# Altium integrated library Altera Stratix GX.IntLib: 96 symbols (part 12 of 44)
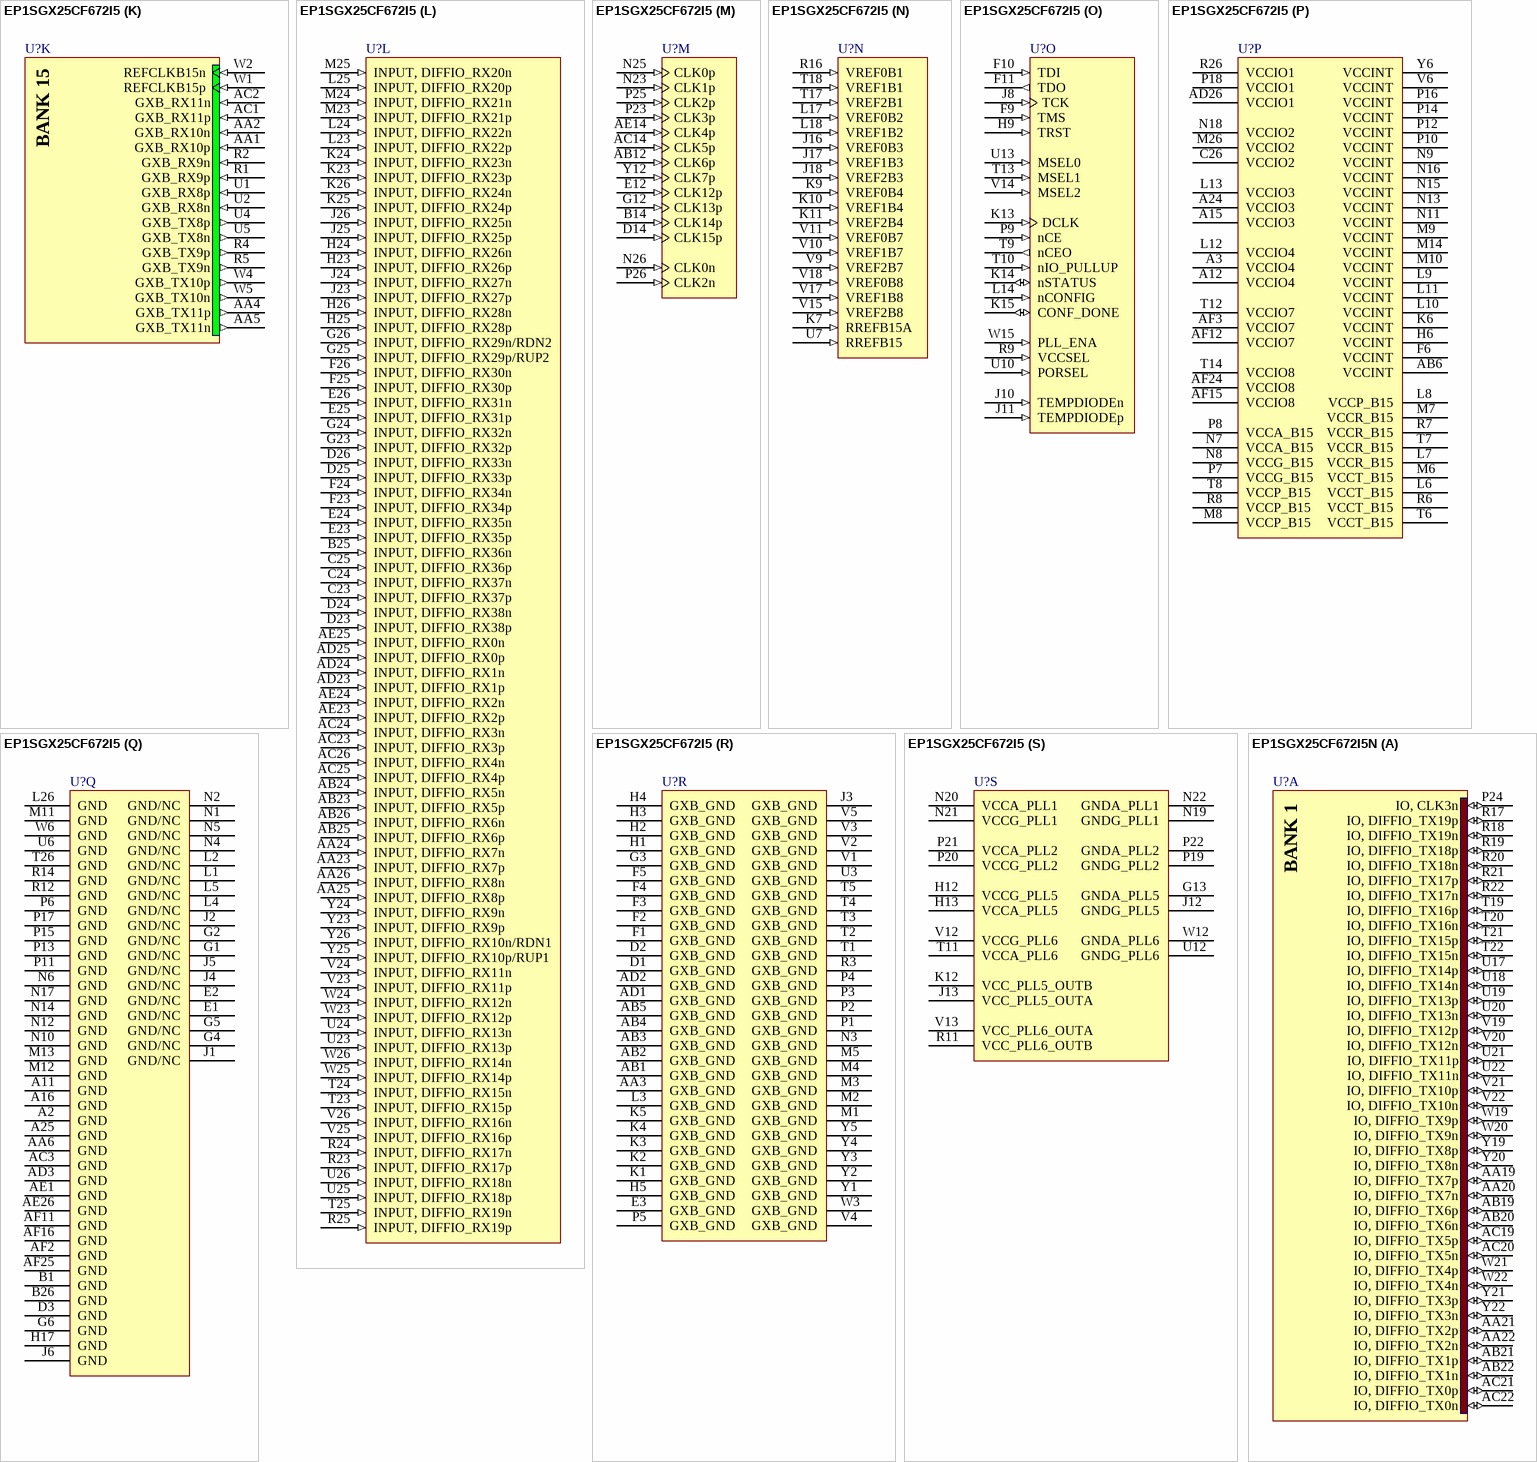
[diagram p280: symbols EP1SGX25CF672I5 to EP1SGX25CF672I5N]

## EP1SGX25CF672I5
designator U?
Stratix GX 1.5V FPGA, 426 I/Os, 672-Pin FineLine FBGA, Industrial Grade, Speed Grade 5; Published: 18-Aug-2005; LatestRevisionDate: 13-Apr-2006; LatestRevisionNote: Name of pin K7 updated, IPC-7351 Footprint Added.; DatasheetVersion: ver1.2, Jun-2006; PackageVersion: ver15.4, Dec-2008; PackageReference: FBGA672; Publisher: Altium Limited; PackageDescription: 672-Ball FineLine Ball Grid Array (FBGA672) - Flip Chip; Code_JEDEC: MS-034-AAL-1; ComponentLink1Description: Manufacturer Link; ComponentLink1URL: http://www.altera.com/products/devices/stratixgx/sgx-index.jsp; ComponentLink2Description: Handbook; ComponentLink2URL: http://www.altera.com/literature/hb/sgx/sgx_handbook.pdf; ComponentLink3Description: Packaging Specification; ComponentLink3URL: http://www.altera.com/literature/ds/dspkg.pdf
footprint FBGA672 (BGA, 672-Leads, Body 27x27mm, Pitch 1mm)
3D model EP1SGX25C-BGA672 (672-Ball FineLine Ball Grid Array (FBGA672) - Flip Chip)
part A pins: AA19 IO, DIFFIO_TX7p (io), AA20 IO, DIFFIO_TX7n (io), AA21 IO, DIFFIO_TX2p (io), AA22 IO, DIFFIO_TX2n (io), AB19 IO, DIFFIO_TX6p (io), AB20 IO, DIFFIO_TX6n (io), AB21 IO, DIFFIO_TX1p (io), AB22 IO, DIFFIO_TX1n (io), AC19 IO, DIFFIO_TX5p (io), AC20 IO, DIFFIO_TX5n (io), AC21 IO, DIFFIO_TX0p (io), AC22 IO, DIFFIO_TX0n (io), P24 IO, CLK3n (io), R17 IO, DIFFIO_TX19p (io), R18 IO, DIFFIO_TX19n (io), R19 IO, DIFFIO_TX18p (io), R20 IO, DIFFIO_TX18n (io), R21 IO, DIFFIO_TX17p (io), R22 IO, DIFFIO_TX17n (io), T19 IO, DIFFIO_TX16p (io), T20 IO, DIFFIO_TX16n (io), T21 IO, DIFFIO_TX15p (io), T22 IO, DIFFIO_TX15n (io), U17 IO, DIFFIO_TX14p (io), U18 IO, DIFFIO_TX14n (io), U19 IO, DIFFIO_TX13p (io), U20 IO, DIFFIO_TX13n (io), U21 IO, DIFFIO_TX11p (io), U22 IO, DIFFIO_TX11n (io), V19 IO, DIFFIO_TX12p (io), V20 IO, DIFFIO_TX12n (io), V21 IO, DIFFIO_TX10p (io), V22 IO, DIFFIO_TX10n (io), W19 IO, DIFFIO_TX9p (io), W20 IO, DIFFIO_TX9n (io), W21 IO, DIFFIO_TX4p (io), W22 IO, DIFFIO_TX4n (io), Y19 IO, DIFFIO_TX8p (io), Y20 IO, DIFFIO_TX8n (io), Y21 IO, DIFFIO_TX3p (io), Y22 IO, DIFFIO_TX3n (io)
part B pins: D21 IO, DIFFIO_TX38p (io), D22 IO, DIFFIO_TX38n (io), E19 IO, DIFFIO_TX36p (io), E20 IO, DIFFIO_TX36n (io), E21 IO, DIFFIO_TX37p (io), E22 IO, DIFFIO_TX37n (io), F19 IO, DIFFIO_TX34p (io), F20 IO, DIFFIO_TX34n (io), F21 IO, DIFFIO_TX35p (io), F22 IO, DIFFIO_TX35n (io), G19 IO, DIFFIO_TX33p (io), G20 IO, DIFFIO_TX33n (io), G21 IO, DIFFIO_TX32p (io), G22 IO, DIFFIO_TX32n (io), H19 IO, DIFFIO_TX30p (io), H20 IO, DIFFIO_TX30n (io), H21 IO, DIFFIO_TX31p (io), H22 IO, DIFFIO_TX31n (io), J19 IO, DIFFIO_TX27p (io), J20 IO, DIFFIO_TX27n (io), J21 IO, DIFFIO_TX29p (io), J22 IO, DIFFIO_TX29n (io), K17 IO, DIFFIO_TX24p (io), K18 IO, DIFFIO_TX24n (io), K19 IO, DIFFIO_TX26p (io), K20 IO, DIFFIO_TX26n (io), K21 IO, DIFFIO_TX28p (io), K22 IO, DIFFIO_TX28n (io), L19 IO, DIFFIO_TX23p (io), L20 IO, DIFFIO_TX23n (io), L21 IO, DIFFIO_TX25p (io), L22 IO, DIFFIO_TX25n (io), M17 IO, DIFFIO_TX20p (io), M18 IO, DIFFIO_TX20n (io), M19 IO, DIFFIO_TX21p (io), M20 IO, DIFFIO_TX21n (io), M21 IO, DIFFIO_TX22p (io), M22 IO, DIFFIO_TX22n (io), N24 IO, CLK1n (io)
part C pins: A14 IO, CLK14n (io), A17 IO, DQ7T2/DQ2T10/DQ1T10 (io), A18 IO, DQ8T2/DQ3T2/DQ1T18 (io), A19 IO, DQ8T5/DQ3T5/DQ1T21 (io), A20 IO, DQ8T4/DQ3T4/DQ1T20 (io), A21 IO, DQ9T0/DQ3T8/DQ1T24 (io), A22 IO, DQ9T4/DQ3T12/DQ1T28 (io), A23 IO, DQ9T6/DQ3T14/DQ1T30 (io), B15 IO, DQ6T1/DQ2T1/DQ1T1 (io), B16 IO, DQ6T7/DQ2T7/DQ1T7 (io), B17 IO, DQ7T1/DQ2T9/DQ1T9 (io), B18 IO, DQ7T5/DQ2T13/DQ1T13 (io), B19 IO, DQS8T/DQS3T/_ (io), B20 IO, DQ8T3/DQ3T3/DQ1T19 (io), B21 IO, DQ9T1/DQ3T9/DQ1T25 (io), B22 IO, DQS9T/_/_ (io), B23 IO, DQ9T5/DQ3T13/DQ1T29 (io), B24 IO, DQ9T7/DQ3T15/DQ1T31 (io), C14 IO, CLK15n (io), C15 IO, DQ6T6/DQ2T6/DQ1T6 (io), C16 IO, DQ6T3/DQ2T3/DQ1T3 (io), C17 IO, DQS7T/_/DQS1T (io), C18 IO, DQ7T4/DQ2T12/DQ1T12 (io), C19 IO, DQ8T0/DQ3T0/DQ1T16 (io), C20 IO, DQ8T6/DQ3T6/DQ1T22 (io), C21 IO, DQ9T2/DQ3T10/DQ1T26 (io), C22 IO, DQ9T3/DQ3T11/DQ1T27 (io), D15 IO, DQS6T/DQS2T/_ (io), D16 IO, DQ6T4/DQ2T4/DQ1T4 (io), D17 IO, DQ7T3/DQ2T11/DQ1T11 (io), D18 IO, DQ7T6/DQ2T14/DQ1T14 (io), D19 IO, DQ8T1/DQ3T1/DQ1T17 (io), D20 IO, DQ8T7/DQ3T7/DQ1T23 (io), E15 IO, DQ6T2/DQ2T2/DQ1T2 (io), E16 IO, DQ6T0/DQ2T0/DQ1T0 (io), E17 IO, DQ7T0/DQ2T8/DQ1T8 (io), E18 IO, DQ7T7/DQ2T15/DQ1T15 (io), F15 IO, DQ6T5/DQ2T5/DQ1T5 (io), F16 IO, DQ5T6/_/_ (io), F17 IO, (CLKUSR) (io), F18 IO, FCLK0 (io), G14 IO, DQ5T0/_/_ (io), G15 IO, DQS5T/_/_ (io), G16 IO, DQ5T3/_/_ (io), G17 IO, (DATA7) (io), G18 IO, FCLK1 (io), H14 IO, DQ5T1/_/_ (io), H15 IO, DQ5T7/_/_ (io), H16 IO, DQ5T4/_/_ (io), H18 IO (io), J14 IO, DQ5T2/_/_ (io), J15 IO, DQ5T5/_/_ (io), K16 IO, (DATA6) (io), L15 IO, (DATA4) (io), L16 IO, RUP3 (io), M15 IO, (DATA5) (io), M16 IO, RDN3 (io)
part D pins: A4 IO, DQ1T5/DQ0T13/DQ0T13 (io), A5 IO, DQ1T4/DQ0T12/DQ0T12 (io), A6 IO, DQ2T3/DQ1T3/DQ0T19 (io), A7 IO, DQ2T7/DQ1T7/DQ0T23 (io), A8 IO, DQ3T1/DQ1T9/DQ0T25 (io), A9 IO, DQ3T5/DQ1T13/DQ0T29 (io), A10 IO, DQ3T4/DQ1T12/DQ0T28 (io), B2 IO, DQ0T0/DQ0T0/DQ0T0 (io), B3 IO, DQ0T3/DQ0T3/DQ0T3 (io), B4 IO, DQ0T6/DQ0T6/DQ0T6 (io), B5 IO, DQ1T2/DQ0T10/DQ0T10 (io), B6 IO, DQ2T0/DQ1T0/DQ0T16 (io), B7 IO, DQ2T4/DQ1T4/DQ0T20 (io), B8 IO, DQS3T/DQS1T/_ (io), B9 IO, DQ3T6/DQ1T14/DQ0T30 (io), B10 IO, DQS4T/_/_ (io), B11 IO, DQ4T5/_/_ (io), C1 IO, DQ0T2/DQ0T2/DQ0T2 (io), C2 IO, DQ0T1/DQ0T1/DQ0T1 (io), C3 IO, DQS0T/_/_ (io), C4 IO, DQ0T7/DQ0T7/DQ0T7 (io), C5 IO, DQS1T/DQS0T/_ (io), C6 IO, DQ1T1/DQ0T9/DQ0T9 (io), C7 IO, DQS2T/_/DQS0T (io), C8 IO, DQ3T3/DQ1T11/DQ0T27 (io), C9 IO, DQ3T2/DQ1T10/DQ0T26 (io), C10 IO, DQ4T4/_/_ (io), C11 IO, DQ4T7/_/_ (io), D4 IO, DQ0T4/DQ0T4/DQ0T4 (io), D5 IO, DQ1T3/DQ0T11/DQ0T11 (io), D6 IO, DQ1T7/DQ0T15/DQ0T15 (io), D7 IO, DQ2T5/DQ1T5/DQ0T21 (io), D8 IO, DQ3T0/DQ1T8/DQ0T24 (io), D9 IO, DQ3T7/DQ1T15/DQ0T31 (io), D10 IO, DQ4T0/_/_ (io), D11 IO, DQ4T6/_/_ (io), D12 IO, CLK12n (io), E4 IO, DQ0T5/DQ0T5/DQ0T5 (io), E5 IO, DQ1T0/DQ0T8/DQ0T8 (io), E6 IO, DQ1T6/DQ0T14/DQ0T14 (io), E7 IO, DQ2T6/DQ1T6/DQ0T22 (io), E8 IO, DQ2T1/DQ1T1/DQ0T17 (io), E9 IO, DQ4T1/_/_ (io), E10 IO, DQ4T2/_/_ (io), E11 IO, DQ4T3/_/_ (io), F7 IO, DQ2T2/DQ1T2/DQ0T18 (io), F8 IO, (DATA1) (io), F12 IO, CLK13n (io), G7 IO, FCLK7 (io), G8 IO, RDN4 (io), G9 IO (io), G10 IO, FCLK6 (io), G11 IO, RUP4 (io), H7 IO (io), H8 IO (io), H10 IO, (DATA0) (io), H11 IO, (nWS) (io), J7 IO, DEV_OE (io), J9 IO, (DATA3) (io), K8 IO, (DATA2) (io)
part E pins: AA7 IO, DQ2B5/DQ1B5/DQ0B21 (io), AA8 IO, DQ2B1/DQ1B1/DQ0B17 (io), AA9 IO, DQ4B2/_/_ (io), AA10 IO, DQ4B1/_/_ (io), AA11 IO, DQ4B4/_/_ (io), AA12 IO, CLK7n (io), AB7 IO, DQS2B/_/DQS0B (io), AB8 IO, DQ2B0/DQ1B0/DQ0B16 (io), AB9 IO, DQ2B3/DQ1B3/DQ0B19 (io), AB10 IO, DQ4B0/_/_ (io), AB11 IO, DQ4B6/_/_ (io), AC4 IO, DQ0B5/DQ0B5/DQ0B5 (io), AC5 IO, DQ0B0/DQ0B0/DQ0B0 (io), AC6 IO, DQ1B0/DQ0B8/DQ0B8 (io), AC7 IO, DQ1B1/DQ0B9/DQ0B9 (io), AC8 IO, DQ2B4/DQ1B4/DQ0B20 (io), AC9 IO, DQ2B7/DQ1B7/DQ0B23 (io), AC10 IO, DQS4B/_/_ (io), AC11 IO, DQ4B7/_/_ (io), AC12 IO, CLK6n (io), AD4 IO, DQ0B4/DQ0B4/DQ0B4 (io), AD5 IO, DQ0B3/DQ0B3/DQ0B3 (io), AD6 IO, DQ1B3/DQ0B11/DQ0B11 (io), AD7 IO, DQ1B6/DQ0B14/DQ0B14 (io), AD8 IO, DQ3B0/DQ1B8/DQ0B24 (io), AD9 IO, DQ3B1/DQ1B9/DQ0B25 (io), AD10 IO, DQ4B3/_/_ (io), AD11 IO, DQ4B5/_/_ (io), AE2 IO, DQ0B2/DQ0B2/DQ0B2 (io), AE3 IO, DQ0B1/DQ0B1/DQ0B1 (io), AE4 IO, DQS0B/_/_ (io), AE5 IO, DQ0B6/DQ0B6/DQ0B6 (io), AE6 IO, DQS1B/DQS0B/_ (io), AE7 IO, DQ1B4/DQ0B12/DQ0B12 (io), AE8 IO, DQ3B3/DQ1B11/DQ0B27 (io), AE9 IO, DQS3B/DQS1B/_ (io), AE10 IO, DQ3B5/DQ1B13/DQ0B29 (io), AE11 IO, DQ3B6/DQ1B14/DQ0B30 (io), AF4 IO, DQ0B7/DQ0B7/DQ0B7 (io), AF5 IO, DQ1B7/DQ0B15/DQ0B15 (io), AF6 IO, DQ1B2/DQ0B10/DQ0B10 (io), AF7 IO, DQ1B5/DQ0B13/DQ0B13 (io), AF8 IO, DQ3B7/DQ1B15/DQ0B31 (io), AF9 IO, DQ3B2/DQ1B10/DQ0B26 (io), AF10 IO, DQ3B4/DQ1B12/DQ0B28 (io), R10 IO, (PGM0) (io), U8 IO, (PGM1) (io), U9 IO, (nRS) (io), U11 IO, (INIT_DONE) (io), V7 IO (io), V8 IO, RDN7 (io), W7 IO (io), W8 IO (io), W9 IO, FCLK5 (io), W10 IO, DEV_CLRn (io), W11 IO, (RUnLU) (io), Y7 IO, DQ2B6/DQ1B6/DQ0B22 (io), Y8 IO, DQ2B2/DQ1B2/DQ0B18 (io), Y9 IO, FCLK4 (io), Y10 IO, RUP7 (io), Y11 IO (io)
part F pins: AA15 IO, DQS5B/_/_ (io), AA16 IO, DQ5B6/_/_ (io), AA17 IO, DQS7B/_/DQS1B (io), AA18 IO, DQ7B6/DQ2B14/DQ1B14 (io), AB15 IO, DQ5B5/_/_ (io), AB16 IO, DQ7B3/DQ2B11/DQ1B11 (io), AB17 IO, DQ7B2/DQ2B10/DQ1B10 (io), AB18 IO, DQ7B5/DQ2B13/DQ1B13 (io), AC15 IO, DQ6B2/DQ2B2/DQ1B2 (io), AC16 IO, DQ6B1/DQ2B1/DQ1B1 (io), AC17 IO, DQ6B3/DQ2B3/DQ1B3 (io), AC18 IO, DQ8B1/DQ3B1/DQ1B17 (io), AD14 IO, CLK5n (io), AD15 IO, DQ6B5/DQ2B5/DQ1B5 (io), AD16 IO, DQS6B/DQS2B/_ (io), AD17 IO, DQ6B6/DQ2B6/DQ1B6 (io), AD18 IO, DQ8B5/DQ3B5/DQ1B21 (io), AD19 IO, DQ8B4/DQ3B4/DQ1B20 (io), AD20 IO, DQ9B1/DQ3B9/DQ1B25 (io), AD21 IO, DQ9B2/DQ3B10/DQ1B26 (io), AD22 IO, DQ9B5/DQ3B13/DQ1B29 (io), AE15 IO, DQ6B0/DQ2B0/DQ1B0 (io), AE16 IO, DQ6B4/DQ2B4/DQ1B4 (io), AE17 IO, DQ6B7/DQ2B7/DQ1B7 (io), AE18 IO, DQS8B/DQS3B/_ (io), AE19 IO, DQ8B6/DQ3B6/DQ1B22 (io), AE20 IO, DQ9B0/DQ3B8/DQ1B24 (io), AE21 IO, DQS9B/_/_ (io), AE22 IO, DQ9B6/DQ3B14/DQ1B30 (io), AF14 IO, CLK4n (io), AF17 IO, DQ8B2/DQ3B2/DQ1B18 (io), AF18 IO, DQ8B0/DQ3B0/DQ1B16 (io), AF19 IO, DQ8B3/DQ3B3/DQ1B19 (io), AF20 IO, DQ8B7/DQ3B7/DQ1B23 (io), AF21 IO, DQ9B3/DQ3B11/DQ1B27 (io), AF22 IO, DQ9B4/DQ3B12/DQ1B28 (io), AF23 IO, DQ9B7/DQ3B15/DQ1B31 (io), R13 IO, (nCS) (io), R15 IO, RDN8 (io), T15 IO, (PGM2) (io), T16 IO, FCLK3 (io), U14 IO, (CS) (io), U15 IO (io), U16 IO, FCLK2 (io), V16 IO, RUP8 (io), W13 IO, DQ5B2/_/_ (io), W14 IO, DQ5B4/_/_ (io), W16 IO, (RDYnBSY) (io), W17 IO, DQ7B1/DQ2B9/DQ1B9 (io), W18 IO, DQ7B4/DQ2B12/DQ1B12 (io), Y13 IO, DQ5B1/_/_ (io), Y14 IO, DQ5B0/_/_ (io), Y15 IO, DQ5B3/_/_ (io), Y16 IO, DQ5B7/_/_ (io), Y17 IO, DQ7B0/DQ2B8/DQ1B8 (io), Y18 IO, DQ7B7/DQ2B15/DQ1B15 (io)
part G pins: B12 IO, PLL5_OUT1n (io), C12 IO, PLL5_OUT1p (io), C13 IO, PLL5_OUT0n (io), D13 IO, PLL5_OUT0p (io), E13 IO, PLL5_FBn (io), F13 IO, PLL5_FBp (io)
part H pins: A13 IO, PLL5_OUT3n (io), B13 IO, PLL5_OUT3p (io), E14 IO, PLL5_OUT2n (io), F14 IO, PLL5_OUT2p (io)
part I pins: AA13 IO, PLL6_OUT1p (io), AB13 IO, PLL6_OUT1n (io), AC13 IO, PLL6_OUT0p (io), AD12 IO, PLL6_FBp (io), AD13 IO, PLL6_OUT0n (io), AE12 IO, PLL6_FBn (io)
part J pins: AA14 IO, PLL6_OUT2p (io), AB14 IO, PLL6_OUT2n (io), AE13 IO, PLL6_OUT3p (io), AF13 IO, PLL6_OUT3n (io)
part K pins: AA1 GXB_RX10p (in), AA2 GXB_RX10n (in), AA4 GXB_TX11p (out), AA5 GXB_TX11n (out), AC1 GXB_RX11p (in), AC2 GXB_RX11n (in), R1 GXB_RX9p (in), R2 GXB_RX9n (in), R4 GXB_TX9p (out), R5 GXB_TX9n (out), U1 GXB_RX8p (in), U2 GXB_RX8n (in), U4 GXB_TX8p (out), U5 GXB_TX8n (out), W1 REFCLKB15p (in), W2 REFCLKB15n (in), W4 GXB_TX10p (out), W5 GXB_TX10n (out)
part L pins: AA23 INPUT, DIFFIO_RX7p (in), AA24 INPUT, DIFFIO_RX7n (in), AA25 INPUT, DIFFIO_RX8p (in), AA26 INPUT, DIFFIO_RX8n (in), AB23 INPUT, DIFFIO_RX5p (in), AB24 INPUT, DIFFIO_RX5n (in), AB25 INPUT, DIFFIO_RX6p (in), AB26 INPUT, DIFFIO_RX6n (in), AC23 INPUT, DIFFIO_RX3p (in), AC24 INPUT, DIFFIO_RX3n (in), AC25 INPUT, DIFFIO_RX4p (in), AC26 INPUT, DIFFIO_RX4n (in), AD23 INPUT, DIFFIO_RX1p (in), AD24 INPUT, DIFFIO_RX1n (in), AD25 INPUT, DIFFIO_RX0p (in), AE23 INPUT, DIFFIO_RX2p (in), AE24 INPUT, DIFFIO_RX2n (in), AE25 INPUT, DIFFIO_RX0n (in), B25 INPUT, DIFFIO_RX36n (in), C23 INPUT, DIFFIO_RX37p (in), C24 INPUT, DIFFIO_RX37n (in), C25 INPUT, DIFFIO_RX36p (in), D23 INPUT, DIFFIO_RX38p (in), D24 INPUT, DIFFIO_RX38n (in), D25 INPUT, DIFFIO_RX33p (in), D26 INPUT, DIFFIO_RX33n (in), E23 INPUT, DIFFIO_RX35p (in), E24 INPUT, DIFFIO_RX35n (in), E25 INPUT, DIFFIO_RX31p (in), E26 INPUT, DIFFIO_RX31n (in), F23 INPUT, DIFFIO_RX34p (in), F24 INPUT, DIFFIO_RX34n (in), F25 INPUT, DIFFIO_RX30p (in), F26 INPUT, DIFFIO_RX30n (in), G23 INPUT, DIFFIO_RX32p (in), G24 INPUT, DIFFIO_RX32n (in), G25 INPUT, DIFFIO_RX29p/RUP2 (in), G26 INPUT, DIFFIO_RX29n/RDN2 (in), H23 INPUT, DIFFIO_RX26p (in), H24 INPUT, DIFFIO_RX26n (in), H25 INPUT, DIFFIO_RX28p (in), H26 INPUT, DIFFIO_RX28n (in), J23 INPUT, DIFFIO_RX27p (in), J24 INPUT, DIFFIO_RX27n (in), J25 INPUT, DIFFIO_RX25p (in), J26 INPUT, DIFFIO_RX25n (in), K23 INPUT, DIFFIO_RX23p (in), K24 INPUT, DIFFIO_RX23n (in), K25 INPUT, DIFFIO_RX24p (in), K26 INPUT, DIFFIO_RX24n (in), L23 INPUT, DIFFIO_RX22p (in), L24 INPUT, DIFFIO_RX22n (in), L25 INPUT, DIFFIO_RX20p (in), M23 INPUT, DIFFIO_RX21p (in), M24 INPUT, DIFFIO_RX21n (in), M25 INPUT, DIFFIO_RX20n (in), R23 INPUT, DIFFIO_RX17p (in), R24 INPUT, DIFFIO_RX17n (in), R25 INPUT, DIFFIO_RX19p (in), T23 INPUT, DIFFIO_RX15p (in), T24 INPUT, DIFFIO_RX15n (in), T25 INPUT, DIFFIO_RX19n (in), U23 INPUT, DIFFIO_RX13p (in), U24 INPUT, DIFFIO_RX13n (in), U25 INPUT, DIFFIO_RX18p (in), U26 INPUT, DIFFIO_RX18n (in), V23 INPUT, DIFFIO_RX11p (in), V24 INPUT, DIFFIO_RX11n (in), V25 INPUT, DIFFIO_RX16p (in), V26 INPUT, DIFFIO_RX16n (in), W23 INPUT, DIFFIO_RX12p (in), W24 INPUT, DIFFIO_RX12n (in), W25 INPUT, DIFFIO_RX14p (in), W26 INPUT, DIFFIO_RX14n (in), Y23 INPUT, DIFFIO_RX9p (in), Y24 INPUT, DIFFIO_RX9n (in), Y25 INPUT, DIFFIO_RX10p/RUP1 (in), Y26 INPUT, DIFFIO_RX10n/RDN1 (in)
part M pins: AB12 CLK6p (in), AC14 CLK5p (in), AE14 CLK4p (in), B14 CLK14p (in), D14 CLK15p (in), E12 CLK12p (in), G12 CLK13p (in), N23 CLK1p (in), N25 CLK0p (in), N26 CLK0n (in), P23 CLK3p (in), P25 CLK2p (in), P26 CLK2n (in), Y12 CLK7p (in)
part N pins: J16 VREF0B3 (in), J17 VREF1B3 (in), J18 VREF2B3 (in), K7 RREFB15A (in), K9 VREF0B4 (in), K10 VREF1B4 (in), K11 VREF2B4 (in), L17 VREF0B2 (in), L18 VREF1B2 (in), R16 VREF0B1 (in), T17 VREF2B1 (in), T18 VREF1B1 (in), U7 RREFB15 (in), V9 VREF2B7 (in), V10 VREF1B7 (in), V11 VREF0B7 (in), V15 VREF2B8 (in), V17 VREF1B8 (in), V18 VREF0B8 (in)
part O pins: F9 TMS (in), F10 TDI (in), F11 TDO (out), H9 TRST (in), J8 TCK (in), J10 TEMPDIODEn (in), J11 TEMPDIODEp (in), K13 DCLK (in), K14 nSTATUS (io), K15 CONF_DONE (io), L14 nCONFIG (in), P9 nCE (in), R9 VCCSEL (in), T9 nCEO (out), T10 nIO_PULLUP (in), T13 MSEL1 (in), U10 PORSEL (in), U13 MSEL0 (in), V14 MSEL2 (in), W15 PLL_ENA (in)
part P pins: A3 VCCIO4 (power), A12 VCCIO4 (power), A15 VCCIO3 (power), A24 VCCIO3 (power), AB6 VCCINT (power), AD26 VCCIO1 (power), AF3 VCCIO7 (power), AF12 VCCIO7 (power), AF15 VCCIO8 (power), AF24 VCCIO8 (power), C26 VCCIO2 (power), F6 VCCINT (power), H6 VCCINT (power), K6 VCCINT (power), L6 VCCT_B15 (power), L7 VCCR_B15 (power), L8 VCCP_B15 (power), L9 VCCINT (power), L10 VCCINT (power), L11 VCCINT (power), L12 VCCIO4 (power), L13 VCCIO3 (power), M6 VCCT_B15 (power), M7 VCCR_B15 (power), M8 VCCP_B15 (power), M9 VCCINT (power), M10 VCCINT (power), M14 VCCINT (power), M26 VCCIO2 (power), N7 VCCA_B15 (power), N8 VCCG_B15 (power), N9 VCCINT (power), N11 VCCINT (power), N13 VCCINT (power), N15 VCCINT (power), N16 VCCINT (power), N18 VCCIO2 (power), P7 VCCG_B15 (power), P8 VCCA_B15 (power), P10 VCCINT (power), P12 VCCINT (power), P14 VCCINT (power), P16 VCCINT (power), P18 VCCIO1 (power), R6 VCCT_B15 (power), R7 VCCR_B15 (power), R8 VCCP_B15 (power), R26 VCCIO1 (power), T6 VCCT_B15 (power), T7 VCCR_B15 (power), T8 VCCP_B15 (power), T12 VCCIO7 (power), T14 VCCIO8 (power), V6 VCCINT (power), Y6 VCCINT (power)
part Q pins: A2 GND (power), A11 GND (power), A16 GND (power), A25 GND (power), AA6 GND (power), AC3 GND (power), AD3 GND (power), AE1 GND (power), AE26 GND (power), AF2 GND (power), AF11 GND (power), AF16 GND (power), AF25 GND (power), B1 GND (power), B26 GND (power), D3 GND (power), E1 GND/NC, E2 GND/NC, G1 GND/NC, G2 GND/NC, G4 GND/NC, G5 GND/NC, G6 GND (power), H17 GND (power), J1 GND/NC, J2 GND/NC, J4 GND/NC, J5 GND/NC, J6 GND (power), L1 GND/NC, L2 GND/NC, L4 GND/NC, L5 GND/NC, L26 GND (power), M11 GND (power), M12 GND (power), M13 GND (power), N1 GND/NC, N2 GND/NC, N4 GND/NC, N5 GND/NC, N6 GND (power), N10 GND (power), N12 GND (power), N14 GND (power), N17 GND (power), P6 GND (power), P11 GND (power), P13 GND (power), P15 GND (power), P17 GND (power), R12 GND (power), R14 GND (power), T26 GND (power), U6 GND (power), W6 GND (power)
part R pins: AA3 GXB_GND (power), AB1 GXB_GND (power), AB2 GXB_GND (power), AB3 GXB_GND (power), AB4 GXB_GND (power), AB5 GXB_GND (power), AD1 GXB_GND (power), AD2 GXB_GND (power), D1 GXB_GND (power), D2 GXB_GND (power), E3 GXB_GND (power), F1 GXB_GND (power), F2 GXB_GND (power), F3 GXB_GND (power), F4 GXB_GND (power), F5 GXB_GND (power), G3 GXB_GND (power), H1 GXB_GND (power), H2 GXB_GND (power), H3 GXB_GND (power), H4 GXB_GND (power), H5 GXB_GND (power), J3 GXB_GND (power), K1 GXB_GND (power), K2 GXB_GND (power), K3 GXB_GND (power), K4 GXB_GND (power), K5 GXB_GND (power), L3 GXB_GND (power), M1 GXB_GND (power), M2 GXB_GND (power), M3 GXB_GND (power), M4 GXB_GND (power), M5 GXB_GND (power), N3 GXB_GND (power), P1 GXB_GND (power), P2 GXB_GND (power), P3 GXB_GND (power), P4 GXB_GND (power), P5 GXB_GND (power), R3 GXB_GND (power), T1 GXB_GND (power), T2 GXB_GND (power), T3 GXB_GND (power), T4 GXB_GND (power), T5 GXB_GND (power), U3 GXB_GND (power), V1 GXB_GND (power), V2 GXB_GND (power), V3 GXB_GND (power), V4 GXB_GND (power), V5 GXB_GND (power), W3 GXB_GND (power), Y1 GXB_GND (power), Y2 GXB_GND (power), Y3 GXB_GND (power), Y4 GXB_GND (power), Y5 GXB_GND (power)
part S pins: G13 GNDA_PLL5 (power), H12 VCCG_PLL5 (power), H13 VCCA_PLL5 (power), J12 GNDG_PLL5 (power), J13 VCC_PLL5_OUTA (power), K12 VCC_PLL5_OUTB (power), N19 GNDG_PLL1 (power), N20 VCCA_PLL1 (power), N21 VCCG_PLL1 (power), N22 GNDA_PLL1 (power), P19 GNDG_PLL2 (power), P20 VCCG_PLL2 (power), P21 VCCA_PLL2 (power), P22 GNDA_PLL2 (power), R11 VCC_PLL6_OUTB (power), T11 VCCA_PLL6 (power), U12 GNDG_PLL6 (power), V12 VCCG_PLL6 (power), V13 VCC_PLL6_OUTA (power), W12 GNDA_PLL6 (power)
part A text: BANK 1
part B text: BANK 2
part C text: BANK 3
part D text: BANK 4
part E text: BANK 7
part F text: BANK 8
part G text: BANK 9
part H text: BANK 10
part I text: BANK 11
part J text: BANK 12
part K text: BANK 15

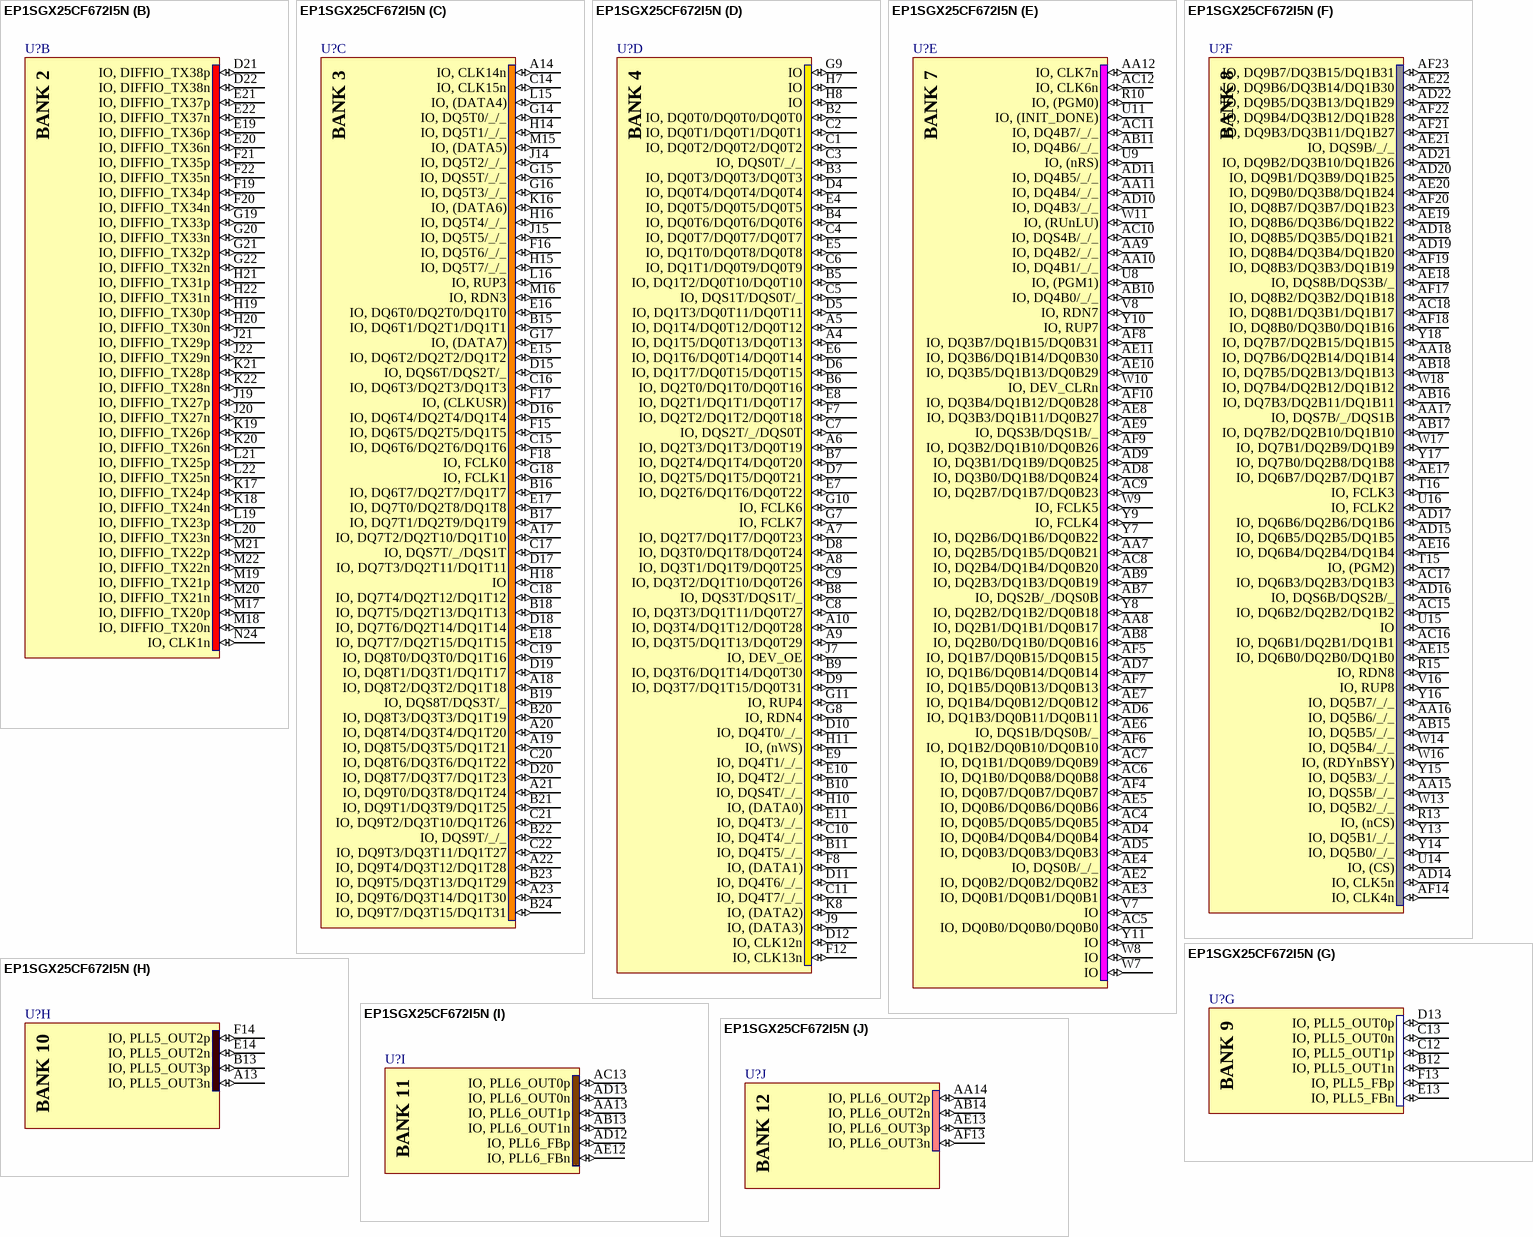
[diagram p62: symbol EP1SGX25CF672I5N]

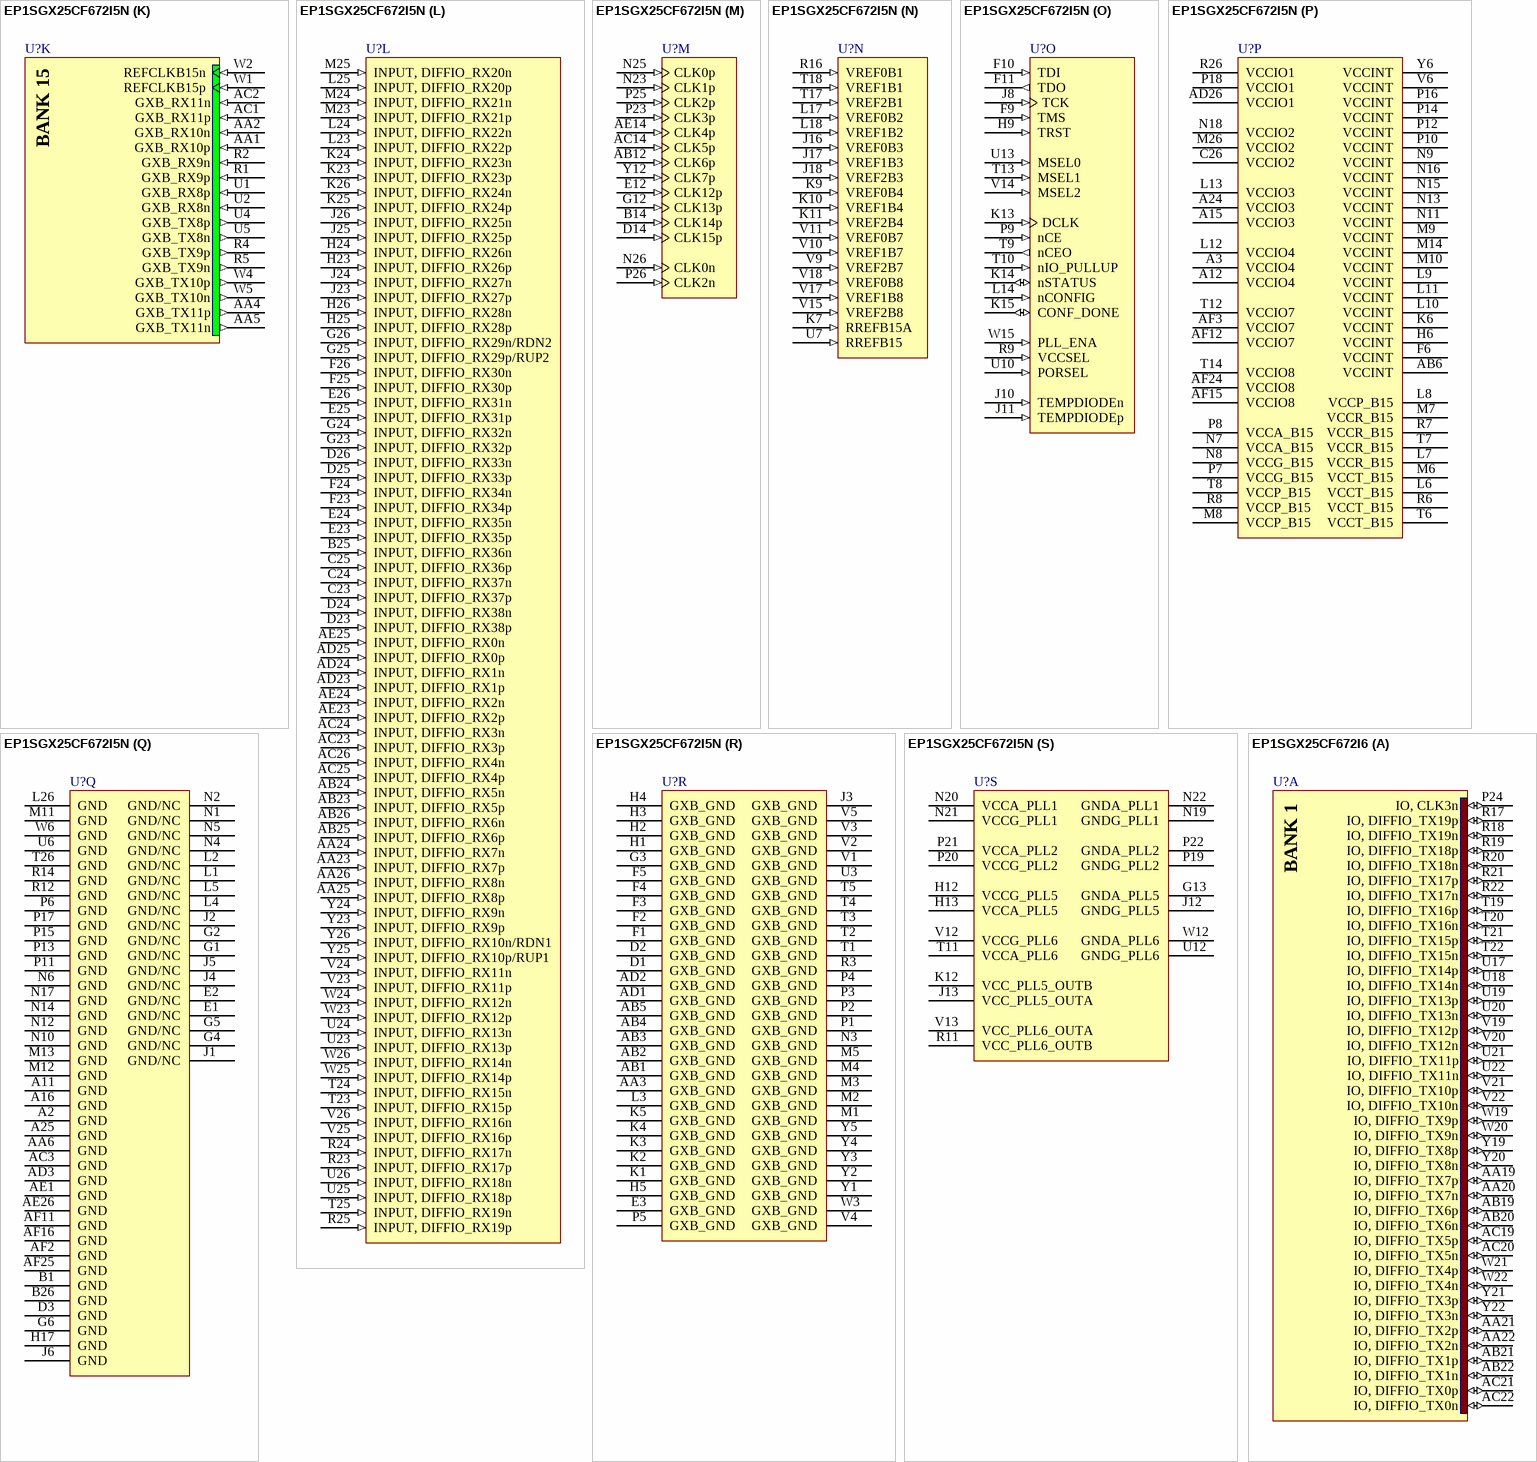
[diagram p63: symbols EP1SGX25CF672I5N to EP1SGX25CF672I6]

## EP1SGX25CF672I5N
designator U?
Stratix GX 1.5V FPGA, 426 I/Os, 672-Pin FineLine FBGA, Industrial Grade, Speed Grade 5, Pb-Free; Published: 18-Aug-2005; LatestRevisionDate: 13-Apr-2006; LatestRevisionNote: Name of pin K7 updated, IPC-7351 Footprint Added.; DatasheetVersion: ver1.2, Jun-2006; PackageVersion: ver15.4, Dec-2008; PackageReference: FBGA672; Publisher: Altium Limited; PackageDescription: 672-Ball FineLine Ball Grid Array (FBGA672) - Flip Chip; Code_JEDEC: MS-034-AAL-1; ComponentLink1Description: Manufacturer Link; ComponentLink1URL: http://www.altera.com/products/devices/stratixgx/sgx-index.jsp; ComponentLink2Description: Handbook; ComponentLink2URL: http://www.altera.com/literature/hb/sgx/sgx_handbook.pdf; ComponentLink3Description: Packaging Specification; ComponentLink3URL: http://www.altera.com/literature/ds/dspkg.pdf
footprint FBGA672 (BGA, 672-Leads, Body 27x27mm, Pitch 1mm)
3D model EP1SGX25C-BGA672 (672-Ball FineLine Ball Grid Array (FBGA672) - Flip Chip)
part A pins: AA19 IO, DIFFIO_TX7p (io), AA20 IO, DIFFIO_TX7n (io), AA21 IO, DIFFIO_TX2p (io), AA22 IO, DIFFIO_TX2n (io), AB19 IO, DIFFIO_TX6p (io), AB20 IO, DIFFIO_TX6n (io), AB21 IO, DIFFIO_TX1p (io), AB22 IO, DIFFIO_TX1n (io), AC19 IO, DIFFIO_TX5p (io), AC20 IO, DIFFIO_TX5n (io), AC21 IO, DIFFIO_TX0p (io), AC22 IO, DIFFIO_TX0n (io), P24 IO, CLK3n (io), R17 IO, DIFFIO_TX19p (io), R18 IO, DIFFIO_TX19n (io), R19 IO, DIFFIO_TX18p (io), R20 IO, DIFFIO_TX18n (io), R21 IO, DIFFIO_TX17p (io), R22 IO, DIFFIO_TX17n (io), T19 IO, DIFFIO_TX16p (io), T20 IO, DIFFIO_TX16n (io), T21 IO, DIFFIO_TX15p (io), T22 IO, DIFFIO_TX15n (io), U17 IO, DIFFIO_TX14p (io), U18 IO, DIFFIO_TX14n (io), U19 IO, DIFFIO_TX13p (io), U20 IO, DIFFIO_TX13n (io), U21 IO, DIFFIO_TX11p (io), U22 IO, DIFFIO_TX11n (io), V19 IO, DIFFIO_TX12p (io), V20 IO, DIFFIO_TX12n (io), V21 IO, DIFFIO_TX10p (io), V22 IO, DIFFIO_TX10n (io), W19 IO, DIFFIO_TX9p (io), W20 IO, DIFFIO_TX9n (io), W21 IO, DIFFIO_TX4p (io), W22 IO, DIFFIO_TX4n (io), Y19 IO, DIFFIO_TX8p (io), Y20 IO, DIFFIO_TX8n (io), Y21 IO, DIFFIO_TX3p (io), Y22 IO, DIFFIO_TX3n (io)
part B pins: D21 IO, DIFFIO_TX38p (io), D22 IO, DIFFIO_TX38n (io), E19 IO, DIFFIO_TX36p (io), E20 IO, DIFFIO_TX36n (io), E21 IO, DIFFIO_TX37p (io), E22 IO, DIFFIO_TX37n (io), F19 IO, DIFFIO_TX34p (io), F20 IO, DIFFIO_TX34n (io), F21 IO, DIFFIO_TX35p (io), F22 IO, DIFFIO_TX35n (io), G19 IO, DIFFIO_TX33p (io), G20 IO, DIFFIO_TX33n (io), G21 IO, DIFFIO_TX32p (io), G22 IO, DIFFIO_TX32n (io), H19 IO, DIFFIO_TX30p (io), H20 IO, DIFFIO_TX30n (io), H21 IO, DIFFIO_TX31p (io), H22 IO, DIFFIO_TX31n (io), J19 IO, DIFFIO_TX27p (io), J20 IO, DIFFIO_TX27n (io), J21 IO, DIFFIO_TX29p (io), J22 IO, DIFFIO_TX29n (io), K17 IO, DIFFIO_TX24p (io), K18 IO, DIFFIO_TX24n (io), K19 IO, DIFFIO_TX26p (io), K20 IO, DIFFIO_TX26n (io), K21 IO, DIFFIO_TX28p (io), K22 IO, DIFFIO_TX28n (io), L19 IO, DIFFIO_TX23p (io), L20 IO, DIFFIO_TX23n (io), L21 IO, DIFFIO_TX25p (io), L22 IO, DIFFIO_TX25n (io), M17 IO, DIFFIO_TX20p (io), M18 IO, DIFFIO_TX20n (io), M19 IO, DIFFIO_TX21p (io), M20 IO, DIFFIO_TX21n (io), M21 IO, DIFFIO_TX22p (io), M22 IO, DIFFIO_TX22n (io), N24 IO, CLK1n (io)
part C pins: A14 IO, CLK14n (io), A17 IO, DQ7T2/DQ2T10/DQ1T10 (io), A18 IO, DQ8T2/DQ3T2/DQ1T18 (io), A19 IO, DQ8T5/DQ3T5/DQ1T21 (io), A20 IO, DQ8T4/DQ3T4/DQ1T20 (io), A21 IO, DQ9T0/DQ3T8/DQ1T24 (io), A22 IO, DQ9T4/DQ3T12/DQ1T28 (io), A23 IO, DQ9T6/DQ3T14/DQ1T30 (io), B15 IO, DQ6T1/DQ2T1/DQ1T1 (io), B16 IO, DQ6T7/DQ2T7/DQ1T7 (io), B17 IO, DQ7T1/DQ2T9/DQ1T9 (io), B18 IO, DQ7T5/DQ2T13/DQ1T13 (io), B19 IO, DQS8T/DQS3T/_ (io), B20 IO, DQ8T3/DQ3T3/DQ1T19 (io), B21 IO, DQ9T1/DQ3T9/DQ1T25 (io), B22 IO, DQS9T/_/_ (io), B23 IO, DQ9T5/DQ3T13/DQ1T29 (io), B24 IO, DQ9T7/DQ3T15/DQ1T31 (io), C14 IO, CLK15n (io), C15 IO, DQ6T6/DQ2T6/DQ1T6 (io), C16 IO, DQ6T3/DQ2T3/DQ1T3 (io), C17 IO, DQS7T/_/DQS1T (io), C18 IO, DQ7T4/DQ2T12/DQ1T12 (io), C19 IO, DQ8T0/DQ3T0/DQ1T16 (io), C20 IO, DQ8T6/DQ3T6/DQ1T22 (io), C21 IO, DQ9T2/DQ3T10/DQ1T26 (io), C22 IO, DQ9T3/DQ3T11/DQ1T27 (io), D15 IO, DQS6T/DQS2T/_ (io), D16 IO, DQ6T4/DQ2T4/DQ1T4 (io), D17 IO, DQ7T3/DQ2T11/DQ1T11 (io), D18 IO, DQ7T6/DQ2T14/DQ1T14 (io), D19 IO, DQ8T1/DQ3T1/DQ1T17 (io), D20 IO, DQ8T7/DQ3T7/DQ1T23 (io), E15 IO, DQ6T2/DQ2T2/DQ1T2 (io), E16 IO, DQ6T0/DQ2T0/DQ1T0 (io), E17 IO, DQ7T0/DQ2T8/DQ1T8 (io), E18 IO, DQ7T7/DQ2T15/DQ1T15 (io), F15 IO, DQ6T5/DQ2T5/DQ1T5 (io), F16 IO, DQ5T6/_/_ (io), F17 IO, (CLKUSR) (io), F18 IO, FCLK0 (io), G14 IO, DQ5T0/_/_ (io), G15 IO, DQS5T/_/_ (io), G16 IO, DQ5T3/_/_ (io), G17 IO, (DATA7) (io), G18 IO, FCLK1 (io), H14 IO, DQ5T1/_/_ (io), H15 IO, DQ5T7/_/_ (io), H16 IO, DQ5T4/_/_ (io), H18 IO (io), J14 IO, DQ5T2/_/_ (io), J15 IO, DQ5T5/_/_ (io), K16 IO, (DATA6) (io), L15 IO, (DATA4) (io), L16 IO, RUP3 (io), M15 IO, (DATA5) (io), M16 IO, RDN3 (io)
part D pins: A4 IO, DQ1T5/DQ0T13/DQ0T13 (io), A5 IO, DQ1T4/DQ0T12/DQ0T12 (io), A6 IO, DQ2T3/DQ1T3/DQ0T19 (io), A7 IO, DQ2T7/DQ1T7/DQ0T23 (io), A8 IO, DQ3T1/DQ1T9/DQ0T25 (io), A9 IO, DQ3T5/DQ1T13/DQ0T29 (io), A10 IO, DQ3T4/DQ1T12/DQ0T28 (io), B2 IO, DQ0T0/DQ0T0/DQ0T0 (io), B3 IO, DQ0T3/DQ0T3/DQ0T3 (io), B4 IO, DQ0T6/DQ0T6/DQ0T6 (io), B5 IO, DQ1T2/DQ0T10/DQ0T10 (io), B6 IO, DQ2T0/DQ1T0/DQ0T16 (io), B7 IO, DQ2T4/DQ1T4/DQ0T20 (io), B8 IO, DQS3T/DQS1T/_ (io), B9 IO, DQ3T6/DQ1T14/DQ0T30 (io), B10 IO, DQS4T/_/_ (io), B11 IO, DQ4T5/_/_ (io), C1 IO, DQ0T2/DQ0T2/DQ0T2 (io), C2 IO, DQ0T1/DQ0T1/DQ0T1 (io), C3 IO, DQS0T/_/_ (io), C4 IO, DQ0T7/DQ0T7/DQ0T7 (io), C5 IO, DQS1T/DQS0T/_ (io), C6 IO, DQ1T1/DQ0T9/DQ0T9 (io), C7 IO, DQS2T/_/DQS0T (io), C8 IO, DQ3T3/DQ1T11/DQ0T27 (io), C9 IO, DQ3T2/DQ1T10/DQ0T26 (io), C10 IO, DQ4T4/_/_ (io), C11 IO, DQ4T7/_/_ (io), D4 IO, DQ0T4/DQ0T4/DQ0T4 (io), D5 IO, DQ1T3/DQ0T11/DQ0T11 (io), D6 IO, DQ1T7/DQ0T15/DQ0T15 (io), D7 IO, DQ2T5/DQ1T5/DQ0T21 (io), D8 IO, DQ3T0/DQ1T8/DQ0T24 (io), D9 IO, DQ3T7/DQ1T15/DQ0T31 (io), D10 IO, DQ4T0/_/_ (io), D11 IO, DQ4T6/_/_ (io), D12 IO, CLK12n (io), E4 IO, DQ0T5/DQ0T5/DQ0T5 (io), E5 IO, DQ1T0/DQ0T8/DQ0T8 (io), E6 IO, DQ1T6/DQ0T14/DQ0T14 (io), E7 IO, DQ2T6/DQ1T6/DQ0T22 (io), E8 IO, DQ2T1/DQ1T1/DQ0T17 (io), E9 IO, DQ4T1/_/_ (io), E10 IO, DQ4T2/_/_ (io), E11 IO, DQ4T3/_/_ (io), F7 IO, DQ2T2/DQ1T2/DQ0T18 (io), F8 IO, (DATA1) (io), F12 IO, CLK13n (io), G7 IO, FCLK7 (io), G8 IO, RDN4 (io), G9 IO (io), G10 IO, FCLK6 (io), G11 IO, RUP4 (io), H7 IO (io), H8 IO (io), H10 IO, (DATA0) (io), H11 IO, (nWS) (io), J7 IO, DEV_OE (io), J9 IO, (DATA3) (io), K8 IO, (DATA2) (io)
part E pins: AA7 IO, DQ2B5/DQ1B5/DQ0B21 (io), AA8 IO, DQ2B1/DQ1B1/DQ0B17 (io), AA9 IO, DQ4B2/_/_ (io), AA10 IO, DQ4B1/_/_ (io), AA11 IO, DQ4B4/_/_ (io), AA12 IO, CLK7n (io), AB7 IO, DQS2B/_/DQS0B (io), AB8 IO, DQ2B0/DQ1B0/DQ0B16 (io), AB9 IO, DQ2B3/DQ1B3/DQ0B19 (io), AB10 IO, DQ4B0/_/_ (io), AB11 IO, DQ4B6/_/_ (io), AC4 IO, DQ0B5/DQ0B5/DQ0B5 (io), AC5 IO, DQ0B0/DQ0B0/DQ0B0 (io), AC6 IO, DQ1B0/DQ0B8/DQ0B8 (io), AC7 IO, DQ1B1/DQ0B9/DQ0B9 (io), AC8 IO, DQ2B4/DQ1B4/DQ0B20 (io), AC9 IO, DQ2B7/DQ1B7/DQ0B23 (io), AC10 IO, DQS4B/_/_ (io), AC11 IO, DQ4B7/_/_ (io), AC12 IO, CLK6n (io), AD4 IO, DQ0B4/DQ0B4/DQ0B4 (io), AD5 IO, DQ0B3/DQ0B3/DQ0B3 (io), AD6 IO, DQ1B3/DQ0B11/DQ0B11 (io), AD7 IO, DQ1B6/DQ0B14/DQ0B14 (io), AD8 IO, DQ3B0/DQ1B8/DQ0B24 (io), AD9 IO, DQ3B1/DQ1B9/DQ0B25 (io), AD10 IO, DQ4B3/_/_ (io), AD11 IO, DQ4B5/_/_ (io), AE2 IO, DQ0B2/DQ0B2/DQ0B2 (io), AE3 IO, DQ0B1/DQ0B1/DQ0B1 (io), AE4 IO, DQS0B/_/_ (io), AE5 IO, DQ0B6/DQ0B6/DQ0B6 (io), AE6 IO, DQS1B/DQS0B/_ (io), AE7 IO, DQ1B4/DQ0B12/DQ0B12 (io), AE8 IO, DQ3B3/DQ1B11/DQ0B27 (io), AE9 IO, DQS3B/DQS1B/_ (io), AE10 IO, DQ3B5/DQ1B13/DQ0B29 (io), AE11 IO, DQ3B6/DQ1B14/DQ0B30 (io), AF4 IO, DQ0B7/DQ0B7/DQ0B7 (io), AF5 IO, DQ1B7/DQ0B15/DQ0B15 (io), AF6 IO, DQ1B2/DQ0B10/DQ0B10 (io), AF7 IO, DQ1B5/DQ0B13/DQ0B13 (io), AF8 IO, DQ3B7/DQ1B15/DQ0B31 (io), AF9 IO, DQ3B2/DQ1B10/DQ0B26 (io), AF10 IO, DQ3B4/DQ1B12/DQ0B28 (io), R10 IO, (PGM0) (io), U8 IO, (PGM1) (io), U9 IO, (nRS) (io), U11 IO, (INIT_DONE) (io), V7 IO (io), V8 IO, RDN7 (io), W7 IO (io), W8 IO (io), W9 IO, FCLK5 (io), W10 IO, DEV_CLRn (io), W11 IO, (RUnLU) (io), Y7 IO, DQ2B6/DQ1B6/DQ0B22 (io), Y8 IO, DQ2B2/DQ1B2/DQ0B18 (io), Y9 IO, FCLK4 (io), Y10 IO, RUP7 (io), Y11 IO (io)
part F pins: AA15 IO, DQS5B/_/_ (io), AA16 IO, DQ5B6/_/_ (io), AA17 IO, DQS7B/_/DQS1B (io), AA18 IO, DQ7B6/DQ2B14/DQ1B14 (io), AB15 IO, DQ5B5/_/_ (io), AB16 IO, DQ7B3/DQ2B11/DQ1B11 (io), AB17 IO, DQ7B2/DQ2B10/DQ1B10 (io), AB18 IO, DQ7B5/DQ2B13/DQ1B13 (io), AC15 IO, DQ6B2/DQ2B2/DQ1B2 (io), AC16 IO, DQ6B1/DQ2B1/DQ1B1 (io), AC17 IO, DQ6B3/DQ2B3/DQ1B3 (io), AC18 IO, DQ8B1/DQ3B1/DQ1B17 (io), AD14 IO, CLK5n (io), AD15 IO, DQ6B5/DQ2B5/DQ1B5 (io), AD16 IO, DQS6B/DQS2B/_ (io), AD17 IO, DQ6B6/DQ2B6/DQ1B6 (io), AD18 IO, DQ8B5/DQ3B5/DQ1B21 (io), AD19 IO, DQ8B4/DQ3B4/DQ1B20 (io), AD20 IO, DQ9B1/DQ3B9/DQ1B25 (io), AD21 IO, DQ9B2/DQ3B10/DQ1B26 (io), AD22 IO, DQ9B5/DQ3B13/DQ1B29 (io), AE15 IO, DQ6B0/DQ2B0/DQ1B0 (io), AE16 IO, DQ6B4/DQ2B4/DQ1B4 (io), AE17 IO, DQ6B7/DQ2B7/DQ1B7 (io), AE18 IO, DQS8B/DQS3B/_ (io), AE19 IO, DQ8B6/DQ3B6/DQ1B22 (io), AE20 IO, DQ9B0/DQ3B8/DQ1B24 (io), AE21 IO, DQS9B/_/_ (io), AE22 IO, DQ9B6/DQ3B14/DQ1B30 (io), AF14 IO, CLK4n (io), AF17 IO, DQ8B2/DQ3B2/DQ1B18 (io), AF18 IO, DQ8B0/DQ3B0/DQ1B16 (io), AF19 IO, DQ8B3/DQ3B3/DQ1B19 (io), AF20 IO, DQ8B7/DQ3B7/DQ1B23 (io), AF21 IO, DQ9B3/DQ3B11/DQ1B27 (io), AF22 IO, DQ9B4/DQ3B12/DQ1B28 (io), AF23 IO, DQ9B7/DQ3B15/DQ1B31 (io), R13 IO, (nCS) (io), R15 IO, RDN8 (io), T15 IO, (PGM2) (io), T16 IO, FCLK3 (io), U14 IO, (CS) (io), U15 IO (io), U16 IO, FCLK2 (io), V16 IO, RUP8 (io), W13 IO, DQ5B2/_/_ (io), W14 IO, DQ5B4/_/_ (io), W16 IO, (RDYnBSY) (io), W17 IO, DQ7B1/DQ2B9/DQ1B9 (io), W18 IO, DQ7B4/DQ2B12/DQ1B12 (io), Y13 IO, DQ5B1/_/_ (io), Y14 IO, DQ5B0/_/_ (io), Y15 IO, DQ5B3/_/_ (io), Y16 IO, DQ5B7/_/_ (io), Y17 IO, DQ7B0/DQ2B8/DQ1B8 (io), Y18 IO, DQ7B7/DQ2B15/DQ1B15 (io)
part G pins: B12 IO, PLL5_OUT1n (io), C12 IO, PLL5_OUT1p (io), C13 IO, PLL5_OUT0n (io), D13 IO, PLL5_OUT0p (io), E13 IO, PLL5_FBn (io), F13 IO, PLL5_FBp (io)
part H pins: A13 IO, PLL5_OUT3n (io), B13 IO, PLL5_OUT3p (io), E14 IO, PLL5_OUT2n (io), F14 IO, PLL5_OUT2p (io)
part I pins: AA13 IO, PLL6_OUT1p (io), AB13 IO, PLL6_OUT1n (io), AC13 IO, PLL6_OUT0p (io), AD12 IO, PLL6_FBp (io), AD13 IO, PLL6_OUT0n (io), AE12 IO, PLL6_FBn (io)
part J pins: AA14 IO, PLL6_OUT2p (io), AB14 IO, PLL6_OUT2n (io), AE13 IO, PLL6_OUT3p (io), AF13 IO, PLL6_OUT3n (io)
part K pins: AA1 GXB_RX10p (in), AA2 GXB_RX10n (in), AA4 GXB_TX11p (out), AA5 GXB_TX11n (out), AC1 GXB_RX11p (in), AC2 GXB_RX11n (in), R1 GXB_RX9p (in), R2 GXB_RX9n (in), R4 GXB_TX9p (out), R5 GXB_TX9n (out), U1 GXB_RX8p (in), U2 GXB_RX8n (in), U4 GXB_TX8p (out), U5 GXB_TX8n (out), W1 REFCLKB15p (in), W2 REFCLKB15n (in), W4 GXB_TX10p (out), W5 GXB_TX10n (out)
part L pins: AA23 INPUT, DIFFIO_RX7p (in), AA24 INPUT, DIFFIO_RX7n (in), AA25 INPUT, DIFFIO_RX8p (in), AA26 INPUT, DIFFIO_RX8n (in), AB23 INPUT, DIFFIO_RX5p (in), AB24 INPUT, DIFFIO_RX5n (in), AB25 INPUT, DIFFIO_RX6p (in), AB26 INPUT, DIFFIO_RX6n (in), AC23 INPUT, DIFFIO_RX3p (in), AC24 INPUT, DIFFIO_RX3n (in), AC25 INPUT, DIFFIO_RX4p (in), AC26 INPUT, DIFFIO_RX4n (in), AD23 INPUT, DIFFIO_RX1p (in), AD24 INPUT, DIFFIO_RX1n (in), AD25 INPUT, DIFFIO_RX0p (in), AE23 INPUT, DIFFIO_RX2p (in), AE24 INPUT, DIFFIO_RX2n (in), AE25 INPUT, DIFFIO_RX0n (in), B25 INPUT, DIFFIO_RX36n (in), C23 INPUT, DIFFIO_RX37p (in), C24 INPUT, DIFFIO_RX37n (in), C25 INPUT, DIFFIO_RX36p (in), D23 INPUT, DIFFIO_RX38p (in), D24 INPUT, DIFFIO_RX38n (in), D25 INPUT, DIFFIO_RX33p (in), D26 INPUT, DIFFIO_RX33n (in), E23 INPUT, DIFFIO_RX35p (in), E24 INPUT, DIFFIO_RX35n (in), E25 INPUT, DIFFIO_RX31p (in), E26 INPUT, DIFFIO_RX31n (in), F23 INPUT, DIFFIO_RX34p (in), F24 INPUT, DIFFIO_RX34n (in), F25 INPUT, DIFFIO_RX30p (in), F26 INPUT, DIFFIO_RX30n (in), G23 INPUT, DIFFIO_RX32p (in), G24 INPUT, DIFFIO_RX32n (in), G25 INPUT, DIFFIO_RX29p/RUP2 (in), G26 INPUT, DIFFIO_RX29n/RDN2 (in), H23 INPUT, DIFFIO_RX26p (in), H24 INPUT, DIFFIO_RX26n (in), H25 INPUT, DIFFIO_RX28p (in), H26 INPUT, DIFFIO_RX28n (in), J23 INPUT, DIFFIO_RX27p (in), J24 INPUT, DIFFIO_RX27n (in), J25 INPUT, DIFFIO_RX25p (in), J26 INPUT, DIFFIO_RX25n (in), K23 INPUT, DIFFIO_RX23p (in), K24 INPUT, DIFFIO_RX23n (in), K25 INPUT, DIFFIO_RX24p (in), K26 INPUT, DIFFIO_RX24n (in), L23 INPUT, DIFFIO_RX22p (in), L24 INPUT, DIFFIO_RX22n (in), L25 INPUT, DIFFIO_RX20p (in), M23 INPUT, DIFFIO_RX21p (in), M24 INPUT, DIFFIO_RX21n (in), M25 INPUT, DIFFIO_RX20n (in), R23 INPUT, DIFFIO_RX17p (in), R24 INPUT, DIFFIO_RX17n (in), R25 INPUT, DIFFIO_RX19p (in), T23 INPUT, DIFFIO_RX15p (in), T24 INPUT, DIFFIO_RX15n (in), T25 INPUT, DIFFIO_RX19n (in), U23 INPUT, DIFFIO_RX13p (in), U24 INPUT, DIFFIO_RX13n (in), U25 INPUT, DIFFIO_RX18p (in), U26 INPUT, DIFFIO_RX18n (in), V23 INPUT, DIFFIO_RX11p (in), V24 INPUT, DIFFIO_RX11n (in), V25 INPUT, DIFFIO_RX16p (in), V26 INPUT, DIFFIO_RX16n (in), W23 INPUT, DIFFIO_RX12p (in), W24 INPUT, DIFFIO_RX12n (in), W25 INPUT, DIFFIO_RX14p (in), W26 INPUT, DIFFIO_RX14n (in), Y23 INPUT, DIFFIO_RX9p (in), Y24 INPUT, DIFFIO_RX9n (in), Y25 INPUT, DIFFIO_RX10p/RUP1 (in), Y26 INPUT, DIFFIO_RX10n/RDN1 (in)
part M pins: AB12 CLK6p (in), AC14 CLK5p (in), AE14 CLK4p (in), B14 CLK14p (in), D14 CLK15p (in), E12 CLK12p (in), G12 CLK13p (in), N23 CLK1p (in), N25 CLK0p (in), N26 CLK0n (in), P23 CLK3p (in), P25 CLK2p (in), P26 CLK2n (in), Y12 CLK7p (in)
part N pins: J16 VREF0B3 (in), J17 VREF1B3 (in), J18 VREF2B3 (in), K7 RREFB15A (in), K9 VREF0B4 (in), K10 VREF1B4 (in), K11 VREF2B4 (in), L17 VREF0B2 (in), L18 VREF1B2 (in), R16 VREF0B1 (in), T17 VREF2B1 (in), T18 VREF1B1 (in), U7 RREFB15 (in), V9 VREF2B7 (in), V10 VREF1B7 (in), V11 VREF0B7 (in), V15 VREF2B8 (in), V17 VREF1B8 (in), V18 VREF0B8 (in)
part O pins: F9 TMS (in), F10 TDI (in), F11 TDO (out), H9 TRST (in), J8 TCK (in), J10 TEMPDIODEn (in), J11 TEMPDIODEp (in), K13 DCLK (in), K14 nSTATUS (io), K15 CONF_DONE (io), L14 nCONFIG (in), P9 nCE (in), R9 VCCSEL (in), T9 nCEO (out), T10 nIO_PULLUP (in), T13 MSEL1 (in), U10 PORSEL (in), U13 MSEL0 (in), V14 MSEL2 (in), W15 PLL_ENA (in)
part P pins: A3 VCCIO4 (power), A12 VCCIO4 (power), A15 VCCIO3 (power), A24 VCCIO3 (power), AB6 VCCINT (power), AD26 VCCIO1 (power), AF3 VCCIO7 (power), AF12 VCCIO7 (power), AF15 VCCIO8 (power), AF24 VCCIO8 (power), C26 VCCIO2 (power), F6 VCCINT (power), H6 VCCINT (power), K6 VCCINT (power), L6 VCCT_B15 (power), L7 VCCR_B15 (power), L8 VCCP_B15 (power), L9 VCCINT (power), L10 VCCINT (power), L11 VCCINT (power), L12 VCCIO4 (power), L13 VCCIO3 (power), M6 VCCT_B15 (power), M7 VCCR_B15 (power), M8 VCCP_B15 (power), M9 VCCINT (power), M10 VCCINT (power), M14 VCCINT (power), M26 VCCIO2 (power), N7 VCCA_B15 (power), N8 VCCG_B15 (power), N9 VCCINT (power), N11 VCCINT (power), N13 VCCINT (power), N15 VCCINT (power), N16 VCCINT (power), N18 VCCIO2 (power), P7 VCCG_B15 (power), P8 VCCA_B15 (power), P10 VCCINT (power), P12 VCCINT (power), P14 VCCINT (power), P16 VCCINT (power), P18 VCCIO1 (power), R6 VCCT_B15 (power), R7 VCCR_B15 (power), R8 VCCP_B15 (power), R26 VCCIO1 (power), T6 VCCT_B15 (power), T7 VCCR_B15 (power), T8 VCCP_B15 (power), T12 VCCIO7 (power), T14 VCCIO8 (power), V6 VCCINT (power), Y6 VCCINT (power)
part Q pins: A2 GND (power), A11 GND (power), A16 GND (power), A25 GND (power), AA6 GND (power), AC3 GND (power), AD3 GND (power), AE1 GND (power), AE26 GND (power), AF2 GND (power), AF11 GND (power), AF16 GND (power), AF25 GND (power), B1 GND (power), B26 GND (power), D3 GND (power), E1 GND/NC, E2 GND/NC, G1 GND/NC, G2 GND/NC, G4 GND/NC, G5 GND/NC, G6 GND (power), H17 GND (power), J1 GND/NC, J2 GND/NC, J4 GND/NC, J5 GND/NC, J6 GND (power), L1 GND/NC, L2 GND/NC, L4 GND/NC, L5 GND/NC, L26 GND (power), M11 GND (power), M12 GND (power), M13 GND (power), N1 GND/NC, N2 GND/NC, N4 GND/NC, N5 GND/NC, N6 GND (power), N10 GND (power), N12 GND (power), N14 GND (power), N17 GND (power), P6 GND (power), P11 GND (power), P13 GND (power), P15 GND (power), P17 GND (power), R12 GND (power), R14 GND (power), T26 GND (power), U6 GND (power), W6 GND (power)
part R pins: AA3 GXB_GND (power), AB1 GXB_GND (power), AB2 GXB_GND (power), AB3 GXB_GND (power), AB4 GXB_GND (power), AB5 GXB_GND (power), AD1 GXB_GND (power), AD2 GXB_GND (power), D1 GXB_GND (power), D2 GXB_GND (power), E3 GXB_GND (power), F1 GXB_GND (power), F2 GXB_GND (power), F3 GXB_GND (power), F4 GXB_GND (power), F5 GXB_GND (power), G3 GXB_GND (power), H1 GXB_GND (power), H2 GXB_GND (power), H3 GXB_GND (power), H4 GXB_GND (power), H5 GXB_GND (power), J3 GXB_GND (power), K1 GXB_GND (power), K2 GXB_GND (power), K3 GXB_GND (power), K4 GXB_GND (power), K5 GXB_GND (power), L3 GXB_GND (power), M1 GXB_GND (power), M2 GXB_GND (power), M3 GXB_GND (power), M4 GXB_GND (power), M5 GXB_GND (power), N3 GXB_GND (power), P1 GXB_GND (power), P2 GXB_GND (power), P3 GXB_GND (power), P4 GXB_GND (power), P5 GXB_GND (power), R3 GXB_GND (power), T1 GXB_GND (power), T2 GXB_GND (power), T3 GXB_GND (power), T4 GXB_GND (power), T5 GXB_GND (power), U3 GXB_GND (power), V1 GXB_GND (power), V2 GXB_GND (power), V3 GXB_GND (power), V4 GXB_GND (power), V5 GXB_GND (power), W3 GXB_GND (power), Y1 GXB_GND (power), Y2 GXB_GND (power), Y3 GXB_GND (power), Y4 GXB_GND (power), Y5 GXB_GND (power)
part S pins: G13 GNDA_PLL5 (power), H12 VCCG_PLL5 (power), H13 VCCA_PLL5 (power), J12 GNDG_PLL5 (power), J13 VCC_PLL5_OUTA (power), K12 VCC_PLL5_OUTB (power), N19 GNDG_PLL1 (power), N20 VCCA_PLL1 (power), N21 VCCG_PLL1 (power), N22 GNDA_PLL1 (power), P19 GNDG_PLL2 (power), P20 VCCG_PLL2 (power), P21 VCCA_PLL2 (power), P22 GNDA_PLL2 (power), R11 VCC_PLL6_OUTB (power), T11 VCCA_PLL6 (power), U12 GNDG_PLL6 (power), V12 VCCG_PLL6 (power), V13 VCC_PLL6_OUTA (power), W12 GNDA_PLL6 (power)
part A text: BANK 1
part B text: BANK 2
part C text: BANK 3
part D text: BANK 4
part E text: BANK 7
part F text: BANK 8
part G text: BANK 9
part H text: BANK 10
part I text: BANK 11
part J text: BANK 12
part K text: BANK 15

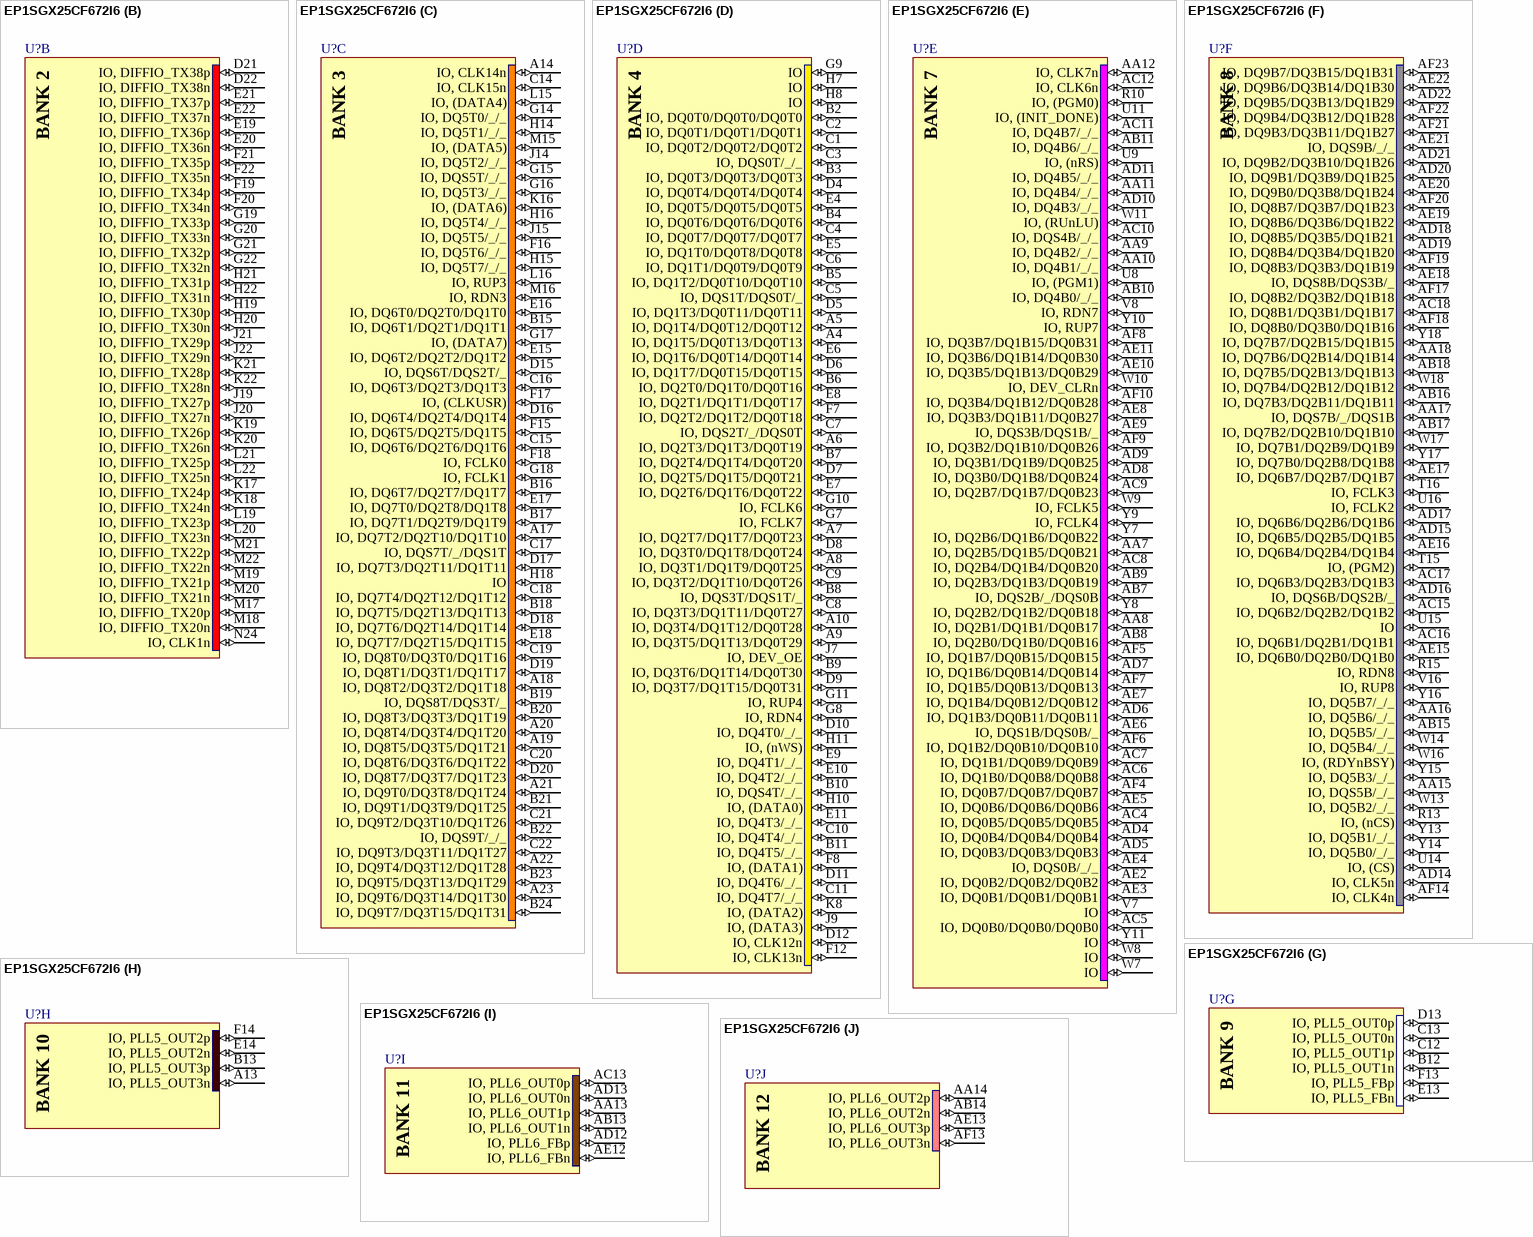
[diagram p64: symbol EP1SGX25CF672I6]

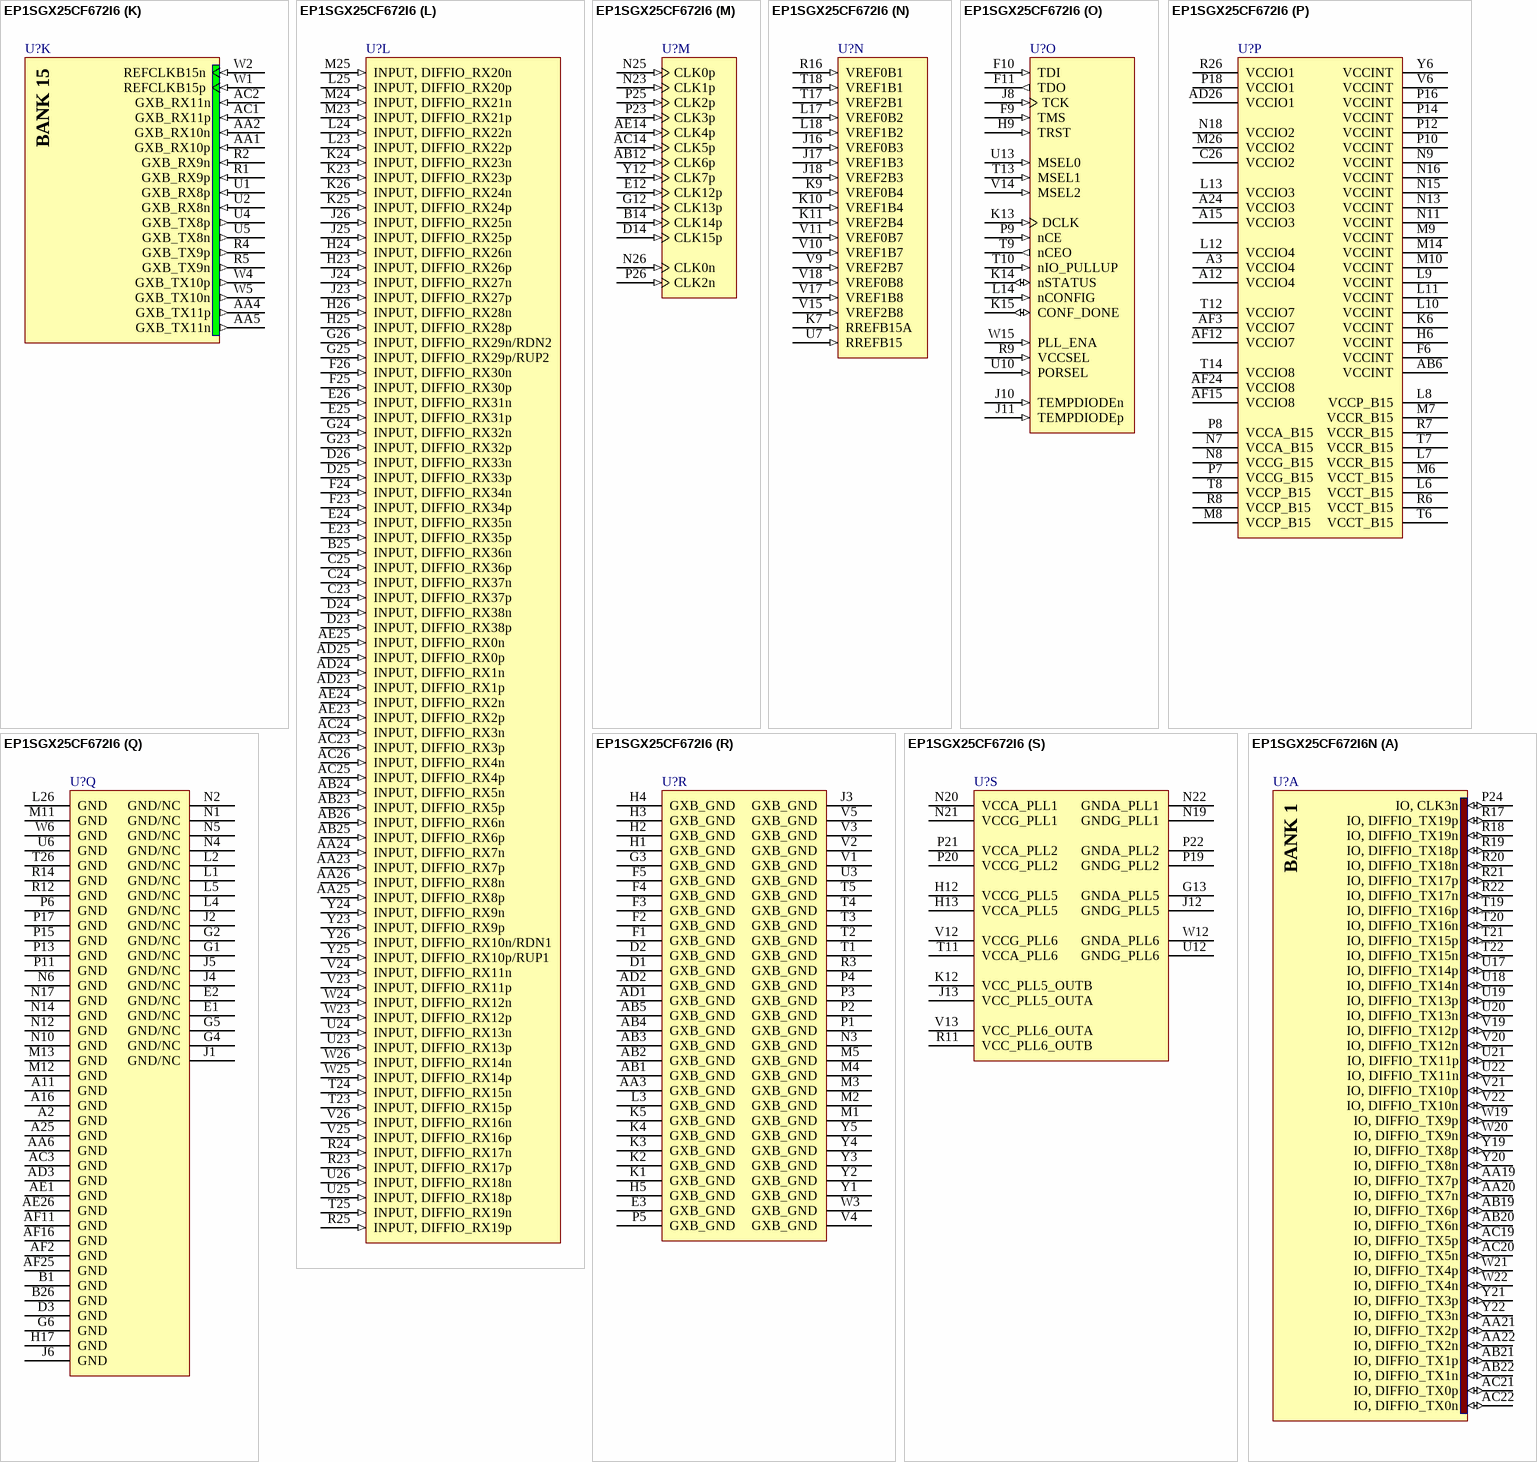
[diagram p65: symbols EP1SGX25CF672I6 to EP1SGX25CF672I6N]